# Altium schematic symbol library FT230XS-R.SchLib: 2 symbols
Pins are listed as number, name and electrical type; pins without a type are passive.

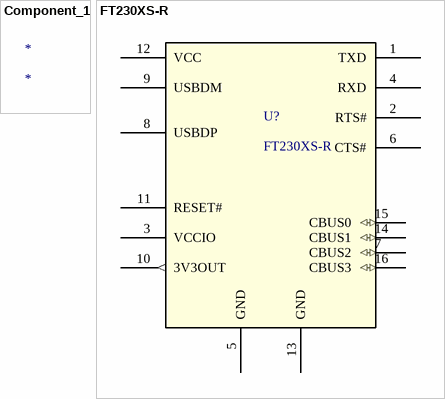
[diagram p0: symbols Component_1 to FT230XS-R]

## Component_1
designator *
footprint CONVERSOR USB PARA UART

## FT230XS-R
designator U?
No Description Available; Mfr_Name: FTDI, Future Technology Devices International Ltd; Copyright: Copyright (C) 2023 Ultra Librarian. All rights reserved.; Manufacturer_Part_Number: FT230XS-R; RefDes: RefDes; Type: DEV
footprint SOIC_30XS-R_FTD
footprint CONVERSOR USB PARA UART
pins: 1 TXD, 2 RTS#, 3 VCCIO (power), 4 RXD, 5 GND (power), 6 CTS#, 7 CBUS2 (io), 8 USBDP, 9 USBDM, 10 3V3OUT (out), 11 RESET#, 12 VCC (power), 13 GND (power), 14 CBUS1 (io), 15 CBUS0 (io), 16 CBUS3 (io)